# Altium schematic symbol library Display7Segment4Digit.SchLib: 1 symbol
Pins are listed as number, name and electrical type; pins without a type are passive.

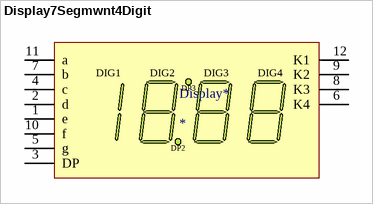
[diagram p0: symbol Display7Segmwnt4Digit]

## Display7Segmwnt4Digit
designator Display*
footprint HDSP-B4 (LED, 7-Segment Display, 14.22 mm, Four Digit, 18:88; 12 Leads; Row Space 15.24 mm; Pitch 2.54 mm)
pins: 1 e "Digits (2-4) e Anode", 2 d "Digits (2-4) d Anode", 3 DP "Digits (2,3) DP Anode", 4 c "Digits (1-4) c Anode", 5 g "Digits (2-4) g Anode", 6 K4 "Digit 4 Common Cathode", 7 b "Digits (1-4) b Anode", 8 K3 "Digit 3 Common Cathode", 9 K2 "Digit 2 Common Cathode", 10 f "Digits (2-4) f Anode", 11 a "Digits (2-4) a Anode", 12 K1 "Digit 1 Common Cathode"
text: DIG1; DIG2; DIG3; DIG4; DP3; DP2